# EAGLE library part LPC11U24 (library InterfaceParts)
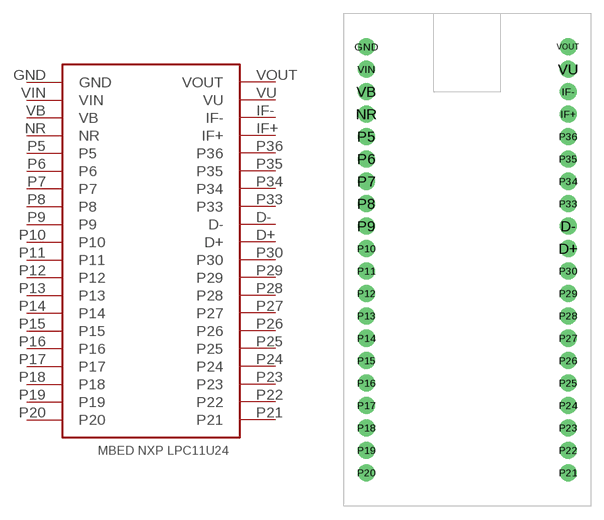
[diagram p1: symbol with the pads of LPC11U24; footprint LPC11U24]

Designator prefix -

## LPC11U24  [LPC11U24]
D+  D+
D-  D-
GND  GND
IF+  IF+
IF-  IF-
NR  NR
P5  P5
P6  P6
P7  P7
P8  P8
P9  P9
P10  P10
P11  P11
P12  P12
P13  P13
P14  P14
P15  P15
P16  P16
P17  P17
P18  P18
P19  P19
P20  P20
P21  P21
P22  P22
P23  P23
P24  P24
P25  P25
P26  P26
P27  P27
P28  P28
P29  P29
P30  P30
P33  P33
P34  P34
P35  P35
P36  P36
VB  VB
VIN  VIN
VOUT  VOUT
VU  VU

## Footprint LPC11U24 (pad centres in mm)
drill 0.9 pad 1.93: D+ 11.43,1.27; D- 11.43,3.81; GND -11.43,24.13; IF+ 11.43,16.51; IF- 11.43,19.05; NR -11.43,16.51; P5 -11.43,13.97; P6 -11.43,11.43; P7 -11.43,8.89; P8 -11.43,6.35; P9 -11.43,3.81; P10 -11.43,1.27; P11 -11.43,-1.27; P12 -11.43,-3.81; P13 -11.43,-6.35; P14 -11.43,-8.89; P15 -11.43,-11.43; P16 -11.43,-13.97; P17 -11.43,-16.51; P18 -11.43,-19.05; P19 -11.43,-21.59; P20 -11.43,-24.13; P21 11.43,-24.13; P22 11.43,-21.59; P23 11.43,-19.05; P24 11.43,-16.51; P25 11.43,-13.97; P26 11.43,-11.43; P27 11.43,-8.89; P28 11.43,-6.35; P29 11.43,-3.81; P30 11.43,-1.27; P33 11.43,6.35; P34 11.43,8.89; P35 11.43,11.43; P36 11.43,13.97; VB -11.43,19.05; VIN -11.43,21.59; VOUT 11.43,24.13; VU 11.43,21.59